# Altium footprint library TjsADLib.PcbLib: 21 footprints (part 1 of 2)
Each footprint in its own frame and in the unit in brackets; x right, y up, seen from the top. Pads: shape width x height; smd on the part's side, far side on the other; paste and mask are expansions set on the pad; w line width, h text height; cw(c..) or ccw(c..) is an arc to the next point about the centre after c.
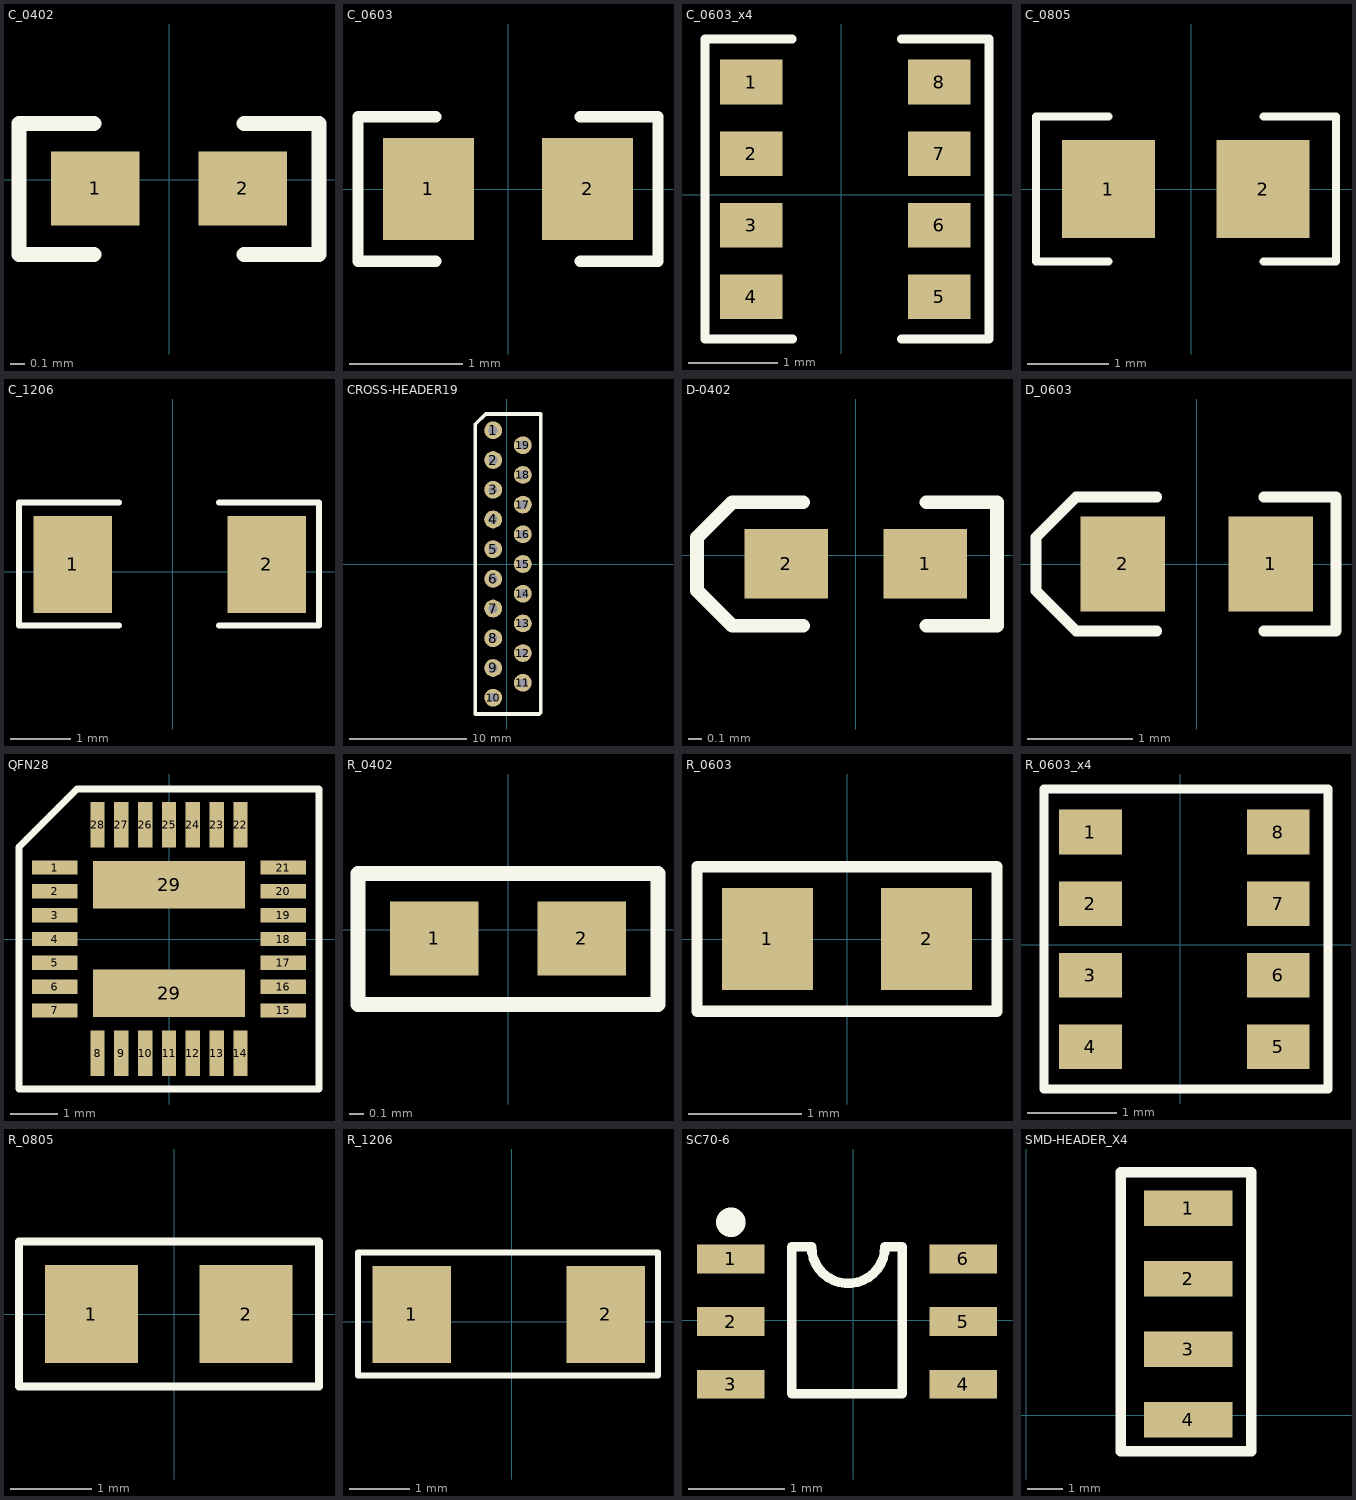
[diagram p0: the footprints below, top view; thin cyan lines are the x and y axes]

## C_0402 [mm]
pads (2):
  rect 0.6x0.5 smd: 1(-0.5,-0.06) 2(0.5,-0.06)
Top Overlay:
  lines w0.1: -0.508,-0.508 -1.016,-0.508 -1.016,0.381 -0.508,0.381 ; 0.508,-0.508 1.016,-0.508 1.016,0.381 0.508,0.381

## C_0603 [mm]
pads (2):
  rect 0.8x0.9 smd: 1(-0.7,0) 2(0.7,0)
Top Overlay:
  lines w0.1: -0.635,-0.635 -1.32,-0.635 -1.32,0.635 -0.635,0.635 ; 0.635,-0.635 1.32,-0.635 1.32,0.635 0.635,0.635

## C_0603_x4 [mm]
pads (8):
  rect 0.7x0.5 smd: 1(-1.004,1.257) 2(-1.004,0.457) 3(-1.004,-0.343) 4(-1.004,-1.143) 5(1.096,-1.143) 6(1.096,-0.343) 7(1.096,0.457) 8(1.096,1.257)
Top Overlay:
  lines w0.1: -0.548,1.738 -1.524,1.738 -1.524,-1.614 -0.545,-1.614 ; 0.675,-1.614 1.654,-1.614 ; 0.675,1.738 1.651,1.738 1.651,-1.614

## C_0805 [mm]
pads (2):
  rect 1.14x1.2 smd: 1(-1.016,0) 2(0.884,0)
Top Overlay:
  lines w0.1: -1.016,-0.889 -1.905,-0.889 -1.905,0.889 -1.016,0.889 ; 0.889,-0.889 1.778,-0.889 1.778,0.889 0.889,0.889

## C_1206 [mm]
pads (2):
  rect 1.3x1.6 smd: 1(-1.651,0.12) 2(1.549,0.12)
Top Overlay:
  lines w0.1: -0.889,-0.889 -2.54,-0.889 -2.54,1.143 -0.889,1.143 ; 0.762,-0.889 2.413,-0.889 2.413,1.143 0.762,1.143

## CROSS-HEADER19 [mil]
pads (19):
  round 60 hole 30: 1(-45,450) 2(-45,350) 3(-45,250) 4(-45,150) 5(-45,50) 6(-45,-50) 7(-45,-150) 8(-45,-250) 9(-45,-350) 10(-45,-450) 11(55,-400) 12(55,-300) 13(55,-200) 14(55,-100) 15(55,0) 16(55,100) 17(55,200) 18(55,300) 19(55,400)
Top Overlay:
  lines w11.81: 115,-455 115,-310 115,505 -70,505 -105,470 -105,-505 110,-505 115,-500 115,-450

## D-0402 [mm]
pads (2):
  rect 0.6x0.5 smd: 1(0.5,-0.06) 2(-0.5,-0.06)
Top Overlay:
  lines w0.1: -0.381,-0.508 -0.889,-0.508 -1.143,-0.254 -1.143,0.127 -0.889,0.381 -0.381,0.381 ; 0.508,-0.508 1.016,-0.508 1.016,0.381 0.508,0.381

## D_0603 [mm]
pads (2):
  rect 0.8x0.9 smd: 1(0.7,0) 2(-0.7,0)
Top Overlay:
  lines w0.1: -0.381,-0.635 -1.143,-0.635 -1.524,-0.254 -1.524,0.254 -1.143,0.635 -0.381,0.635 ; 0.635,-0.635 1.32,-0.635 1.32,0.635 0.635,0.635

## QFN28 [mm]
pads (30):
  rect 0.95x0.3 smd: 1(-2.4,1.5) 2(-2.4,1) 3(-2.4,0.5) 4(-2.4,0) 5(-2.4,-0.5) 6(-2.4,-1) 7(-2.4,-1.5) 15(2.4,-1.5) 16(2.4,-1) 17(2.4,-0.5) 18(2.4,0) 19(2.4,0.5) 20(2.4,1) 21(2.4,1.5)
  rect 0.3x0.95 smd: 8(-1.5,-2.4) 9(-1,-2.4) 10(-0.5,-2.4) 11(0,-2.4) 12(0.5,-2.4) 13(1,-2.4) 14(1.5,-2.4) 22(1.5,2.4) 23(1,2.4) 24(0.5,2.4) 25(0,2.4) 26(-0.5,2.4) 27(-1,2.4) 28(-1.5,2.4)
  rect 3.2x1 smd: 29(0,-1.143) 29(0,1.143)
Top Overlay:
  lines w0.15: -3.15,-3.15 3.15,-3.15 3.15,3.15 -1.93,3.15 -3.15,1.93 -3.15,-3.15

## R_0402 [mm]
pads (2):
  rect 0.6x0.5 smd: 1(-0.5,-0.06) 2(0.5,-0.06)
Top Overlay:
  lines w0.1: -1.016,-0.508 1.016,-0.508 1.016,0.381 -1.016,0.381 -1.016,-0.508

## R_0603 [mm]
pads (2):
  rect 0.8x0.9 smd: 1(-0.7,0) 2(0.7,0)
Top Overlay:
  lines w0.1: -1.32,-0.635 1.32,-0.635 1.32,0.635 -1.32,0.635 -1.32,-0.635

## R_0603_x4 [mm]
pads (8):
  rect 0.7x0.5 smd: 1(-1.004,1.257) 2(-1.004,0.457) 3(-1.004,-0.343) 4(-1.004,-1.143) 5(1.096,-1.143) 6(1.096,-0.343) 7(1.096,0.457) 8(1.096,1.257)
Top Overlay:
  lines w0.1: -1.524,-1.614 -1.524,1.738 1.651,1.738 1.651,-1.614 -1.524,-1.614

## R_0805 [mm]
pads (2):
  rect 1.14x1.2 smd: 1(-1.016,0) 2(0.884,0)
Top Overlay:
  lines w0.1: -1.905,-0.889 1.778,-0.889 1.778,0.889 -1.905,0.889 -1.905,-0.889

## R_1206 [mm]
pads (2):
  rect 1.3x1.6 smd: 1(-1.651,0.12) 2(1.549,0.12)
Top Overlay:
  lines w0.1: -2.54,-0.889 2.413,-0.889 2.413,1.143 -2.54,1.143 -2.54,-0.889

## SC70-6 [mm]
pads (6):
  rect 0.7x0.3 smd paste+0 mask+0.051: 1(-1.27,0.635) 2(-1.27,-0.015) 3(-1.27,-0.665) 4(1.143,-0.665) 5(1.143,-0.015) 6(1.143,0.635)
Top Overlay:
  circle w0.254: c-1.27,1.016 r0.025
  lines w0.1: -0.635,-0.762 0.508,-0.762 0.508,0.762 0.33,0.762 cw(c-0.051,0.762) -0.432,0.762 -0.635,0.762 -0.635,-0.762

## SMD-HEADER_X4 [mm]
pads (4):
  rect 2.5x1 smd: 1(4.572,5.842) 2(4.572,3.852) 3(4.572,1.863) 4(4.572,-0.127)
Top Overlay:
  lines w0.3: 2.667,-1.016 6.35,-1.016 6.35,6.858 2.667,6.858 2.667,-1.016